# EAGLE library part PIC32MX775F512H/MR (library lib_paul)
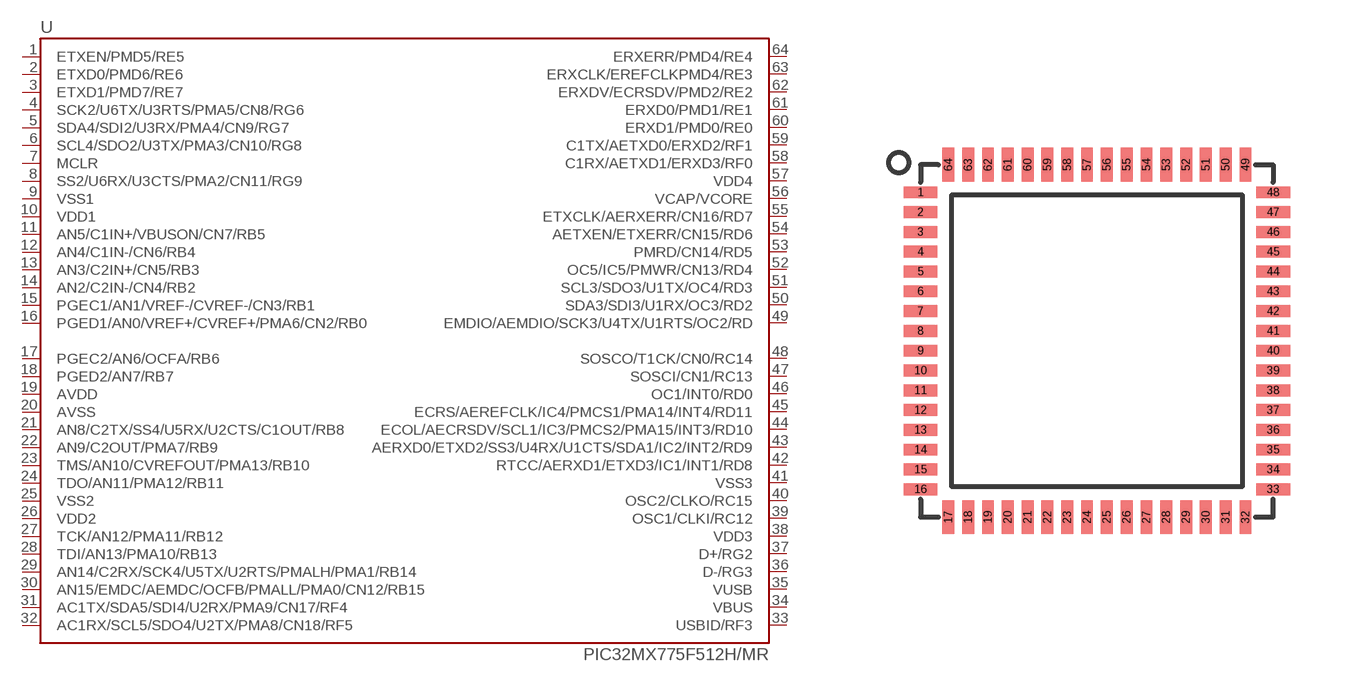
[diagram p26: symbol with the pads of QFN64-0.5; footprint QFN64-0.5]

Designator prefix -

## PIC32MX775F512H/MR  [QFN64-0.5]
1  ETXEN/PMD5/RE5
2  ETXD0/PMD6/RE6
3  ETXD1/PMD7/RE7
4  SCK2/U6TX/U3RTS/PMA5/CN8/RG6
5  SDA4/SDI2/U3RX/PMA4/CN9/RG7
6  SCL4/SDO2/U3TX/PMA3/CN10/RG8
7  MCLR
8  SS2/U6RX/U3CTS/PMA2/CN11/RG9
9  VSS1
10  VDD1
11  AN5/C1IN+/VBUSON/CN7/RB5
12  AN4/C1IN-/CN6/RB4
13  AN3/C2IN+/CN5/RB3
14  AN2/C2IN-/CN4/RB2
15  PGEC1/AN1/VREF-/CVREF-/CN3/RB1
16  PGED1/AN0/VREF+/CVREF+/PMA6/CN2/RB0
17  PGEC2/AN6/OCFA/RB6
18  PGED2/AN7/RB7
19  AVDD
20  AVSS
21  AN8/C2TX/SS4/U5RX/U2CTS/C1OUT/RB8
22  AN9/C2OUT/PMA7/RB9
23  TMS/AN10/CVREFOUT/PMA13/RB10
24  TDO/AN11/PMA12/RB11
25  VSS2
26  VDD2
27  TCK/AN12/PMA11/RB12
28  TDI/AN13/PMA10/RB13
29  AN14/C2RX/SCK4/U5TX/U2RTS/PMALH/PMA1/RB14
30  AN15/EMDC/AEMDC/OCFB/PMALL/PMA0/CN12/RB15
31  AC1TX/SDA5/SDI4/U2RX/PMA9/CN17/RF4
32  AC1RX/SCL5/SDO4/U2TX/PMA8/CN18/RF5
33  USBID/RF3
34  VBUS
35  VUSB
36  D-/RG3
37  D+/RG2
38  VDD3
39  OSC1/CLKI/RC12
40  OSC2/CLKO/RC15
41  VSS3
42  RTCC/AERXD1/ETXD3/IC1/INT1/RD8
43  AERXD0/ETXD2/SS3/U4RX/U1CTS/SDA1/IC2/INT2/RD9
44  ECOL/AECRSDV/SCL1/IC3/PMCS2/PMA15/INT3/RD10
45  ECRS/AEREFCLK/IC4/PMCS1/PMA14/INT4/RD11
46  OC1/INT0/RD0
47  SOSCI/CN1/RC13
48  SOSCO/T1CK/CN0/RC14
49  EMDIO/AEMDIO/SCK3/U4TX/U1RTS/OC2/RD
50  SDA3/SDI3/U1RX/OC3/RD2
51  SCL3/SDO3/U1TX/OC4/RD3
52  OC5/IC5/PMWR/CN13/RD4
53  PMRD/CN14/RD5
54  AETXEN/ETXERR/CN15/RD6
55  ETXCLK/AERXERR/CN16/RD7
56  VCAP/VCORE
57  VDD4
58  C1RX/AETXD1/ERXD3/RF0
59  C1TX/AETXD0/ERXD2/RF1
60  ERXD1/PMD0/RE0
61  ERXD0/PMD1/RE1
62  ERXDV/ECRSDV/PMD2/RE2
63  ERXCLK/EREFCLKPMD4/RE3
64  ERXERR/PMD4/RE4

## Footprint QFN64-0.5 (pad centres in mm)
smd 0.85 x 0.3: 1 -4.45,3.75; 2 -4.45,3.25; 3 -4.45,2.75; 4 -4.45,2.25; 5 -4.45,1.75; 6 -4.45,1.25; 7 -4.45,0.75; 8 -4.45,0.25; 9 -4.45,-0.25; 10 -4.45,-0.75; 11 -4.45,-1.25; 12 -4.45,-1.75; 13 -4.45,-2.25; 14 -4.45,-2.75; 15 -4.45,-3.25; 16 -4.45,-3.75; 33 4.45,-3.75; 34 4.45,-3.25; 35 4.45,-2.75; 36 4.45,-2.25; 37 4.45,-1.75; 38 4.45,-1.25; 39 4.45,-0.75; 40 4.45,-0.25; 41 4.45,0.25; 42 4.45,0.75; 43 4.45,1.25; 44 4.45,1.75; 45 4.45,2.25; 46 4.45,2.75; 47 4.45,3.25; 48 4.45,3.75
smd 0.3 x 0.85: 17 -3.75,-4.45; 18 -3.25,-4.45; 19 -2.75,-4.45; 20 -2.25,-4.45; 21 -1.75,-4.45; 22 -1.25,-4.45; 23 -0.75,-4.45; 24 -0.25,-4.45; 25 0.25,-4.45; 26 0.75,-4.45; 27 1.25,-4.45; 28 1.75,-4.45; 29 2.25,-4.45; 30 2.75,-4.45; 31 3.25,-4.45; 32 3.75,-4.45; 49 3.75,4.45; 50 3.25,4.45; 51 2.75,4.45; 52 2.25,4.45; 53 1.75,4.45; 54 1.25,4.45; 55 0.75,4.45; 56 0.25,4.45; 57 -0.25,4.45; 58 -0.75,4.45; 59 -1.25,4.45; 60 -1.75,4.45; 61 -2.25,4.45; 62 -2.75,4.45; 63 -3.25,4.45; 64 -3.75,4.45